# EAGLE library part LD39200 (library low-gain-radio)
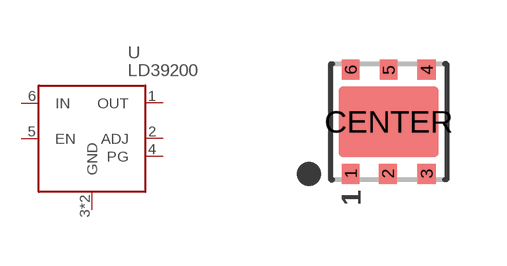
[diagram p3: symbol with the pads of LD39200; footprint LD39200]

Designator prefix U

## LD39200  [LD39200]
1  OUT  pwr
2  ADJ  pas
3  GND  pwr
4  PG  oc
5  EN  in
6  IN  pwr
CENTER  GND  pwr

## Footprint LD39200 (pad centres in mm)
smd 0.45 x 0.5: 1 -0.95,-1.3; 2 -0.02,-1.3; 3 0.95,-1.3; 4 0.95,1.3; 5 0,1.3; 6 -0.95,1.3
smd 2.5 x 1.75: CENTER 0,0